# Altium schematic symbol library USB2.0_HUB_CAP.SchLib: 6 symbols
Pins are listed as number, name and electrical type; pins without a type are passive.

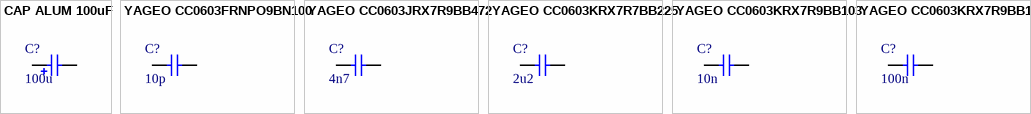
[diagram p0: symbols CAP ALUM 100uF to YAGEO CC0603KRX7R9BB104]

## CAP ALUM 100uF
designator C?, comment 100u
100uF ±20% 16V Aluminum Electrolytic Capacitors 2000hrs@105℃; Manufacturer: PANASONIC; Manufacturer Part Number: EEEFT1C101AR; LCSC Part Number: C336792; Package: SMD; Mounting Type: SMD; ComponentLink2Description: Digikey Link; ComponentLink3Description: LCSC Link; ComponentLink3URL: https://www.lcsc.com/product-detail/C336792.html
footprint CAP_SMD
pins: 1, 2

## YAGEO CC0603FRNPO9BN100
designator C?, comment 10p
10pF ±1% 50V Ceramic Capacitor NP0 0603; Manufacturer: YAGEO; Manufacturer Part Number: CC0603FRNPO9BN100; LCSC Part Number: C309467; Package: 0603; Mounting Type: SMD; ComponentLink2Description: Digikey Link; ComponentLink3Description: LCSC Link; ComponentLink3URL: https://www.lcsc.com/product-detail/C309467.html?spm=wm.fly.bg.0.xh___wm.fly.dhl.mly.12-0-4&lcsc_vid=QlAIX1RQQQJfX1VRTwcNAQJXTlRaUQBVEQBYAwJfFFcxVlNRQ1ReUVNTQlhZUDtW
footprint CAP_0603
pins: 1, 2

## YAGEO CC0603JRX7R9BB472
designator C?, comment 4n7
4.7nF ±5% 50V Ceramic Capacitor X7R 0603; Manufacturer: YAGEO; Manufacturer Part Number: CC0603JRX7R9BB472; LCSC Part Number: C115060; Package: 0603; Mounting Type: SMD; ComponentLink2Description: Digikey Link; ComponentLink3Description: LCSC Link; ComponentLink3URL: https://www.lcsc.com/product-detail/C115060.html
footprint CAP_0603
pins: 1, 2

## YAGEO CC0603KRX7R7BB225
designator C?, comment 2u2
2.2uF ±10% 16V Ceramic Capacitor X7R 0603; Manufacturer: YAGEO; Manufacturer Part Number: CC0603KRX7R7BB225; LCSC Part Number: C914769; Package: 0603; Mounting Type: SMD; ComponentLink2Description: Digikey Link; ComponentLink3Description: LCSC Link; ComponentLink3URL: https://www.lcsc.com/product-detail/C914769.html?spm=wm.fly.bg.0.xh___wm.sxq.dhl.mly.12-0-4&lcsc_vid=QlAIX1RQQQJfX1VRTwcNAQJXTlRaUQBVEQBYAwJfFFcxVlNRQ1VcX1FSRFRbUDsOAxUeFF5JWBYZEEoKFBINSQcJGk4dAgUUFAk%3D
footprint CAP_0603
pins: 1, 2

## YAGEO CC0603KRX7R9BB103
designator C?, comment 10n
10nF ±10% 50V Ceramic Capacitor X7R 0603; Manufacturer: YAGEO; Manufacturer Part Number: CC0603KRX7R9BB103; LCSC Part Number: C100042; Package: 0603; Mounting Type: SMD; ComponentLink2Description: Digikey Link; ComponentLink3Description: LCSC Link; ComponentLink3URL: https://www.lcsc.com/product-detail/C100042.html?spm=wm.fly.bg.0.xh___wm.sxq.dhl.mly.12-0-4&lcsc_vid=QlAIX1RQQQJfX1VRTwcNAQJXTlRaUQBVEQBYAwJfFFcxVlNRQ1ReUVNTQlhZUDtW
footprint CAP_0603
pins: 1, 2

## YAGEO CC0603KRX7R9BB104
designator C?, comment 100n
100nF ±10% 50V Ceramic Capacitor X7R 0603; Manufacturer: YAGEO; Manufacturer Part Number: CC0603KRX7R9BB104; LCSC Part Number: C14663; Package: 0603; Mounting Type: SMD; ComponentLink2Description: Digikey Link; ComponentLink3Description: LCSC Link; ComponentLink3URL: https://www.lcsc.com/product-detail/C14663.html?spm=wm.fly.bg.0.xh___wm.sxq.dhl.mly.12-0-4&lcsc_vid=QlAIX1RQQQJfX1VRTwcNAQJXTlRaUQBVEQBYAwJfFFcxVlNRQ1VcX1FSRFRbUDsOAxUeFF5JWBYZEEoKFBINSQcJGk4dAgUUFAk%3D
footprint CAP_0603
pins: 1, 2